# EAGLE library part DPDT (library PRT-switch)
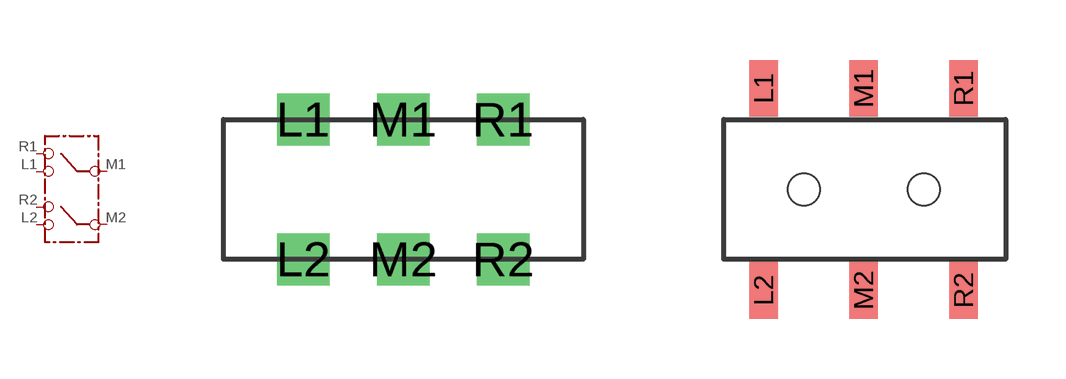
[diagram p0: symbol with the pads of DPDT-PTH; footprints DPDT-PTH, DPDT-SMD]

Designator prefix SW

## DPDTPTH  [DPDT-PTH]
L1  L1
L2  L2
M1  M1
M2  M2
R1  R1
R2  R2

## DPDTSMD  [DPDT-SMD]
Pads as for DPDT-PTH

## Footprint DPDT-PTH (pad centres in mm)
drill 0.8 square: L1 -2.445,1.905; L2 -2.445,-1.595; M1 0.055,1.905; M2 0.055,-1.595; R1 2.555,1.905; R2 2.555,-1.595

## Footprint DPDT-SMD (pad centres in mm)
smd 0.711 x 1.422: L1 -2.5,2.53; L2 -2.5,-2.53; M1 0,2.53; M2 0,-2.53; R1 2.5,2.53; R2 2.5,-2.53
hole 0.8 at -1.5,0
hole 0.8 at 1.5,0